# Altium integrated library adafruit.Library.IntLib: 666 symbols (part 4 of 6)
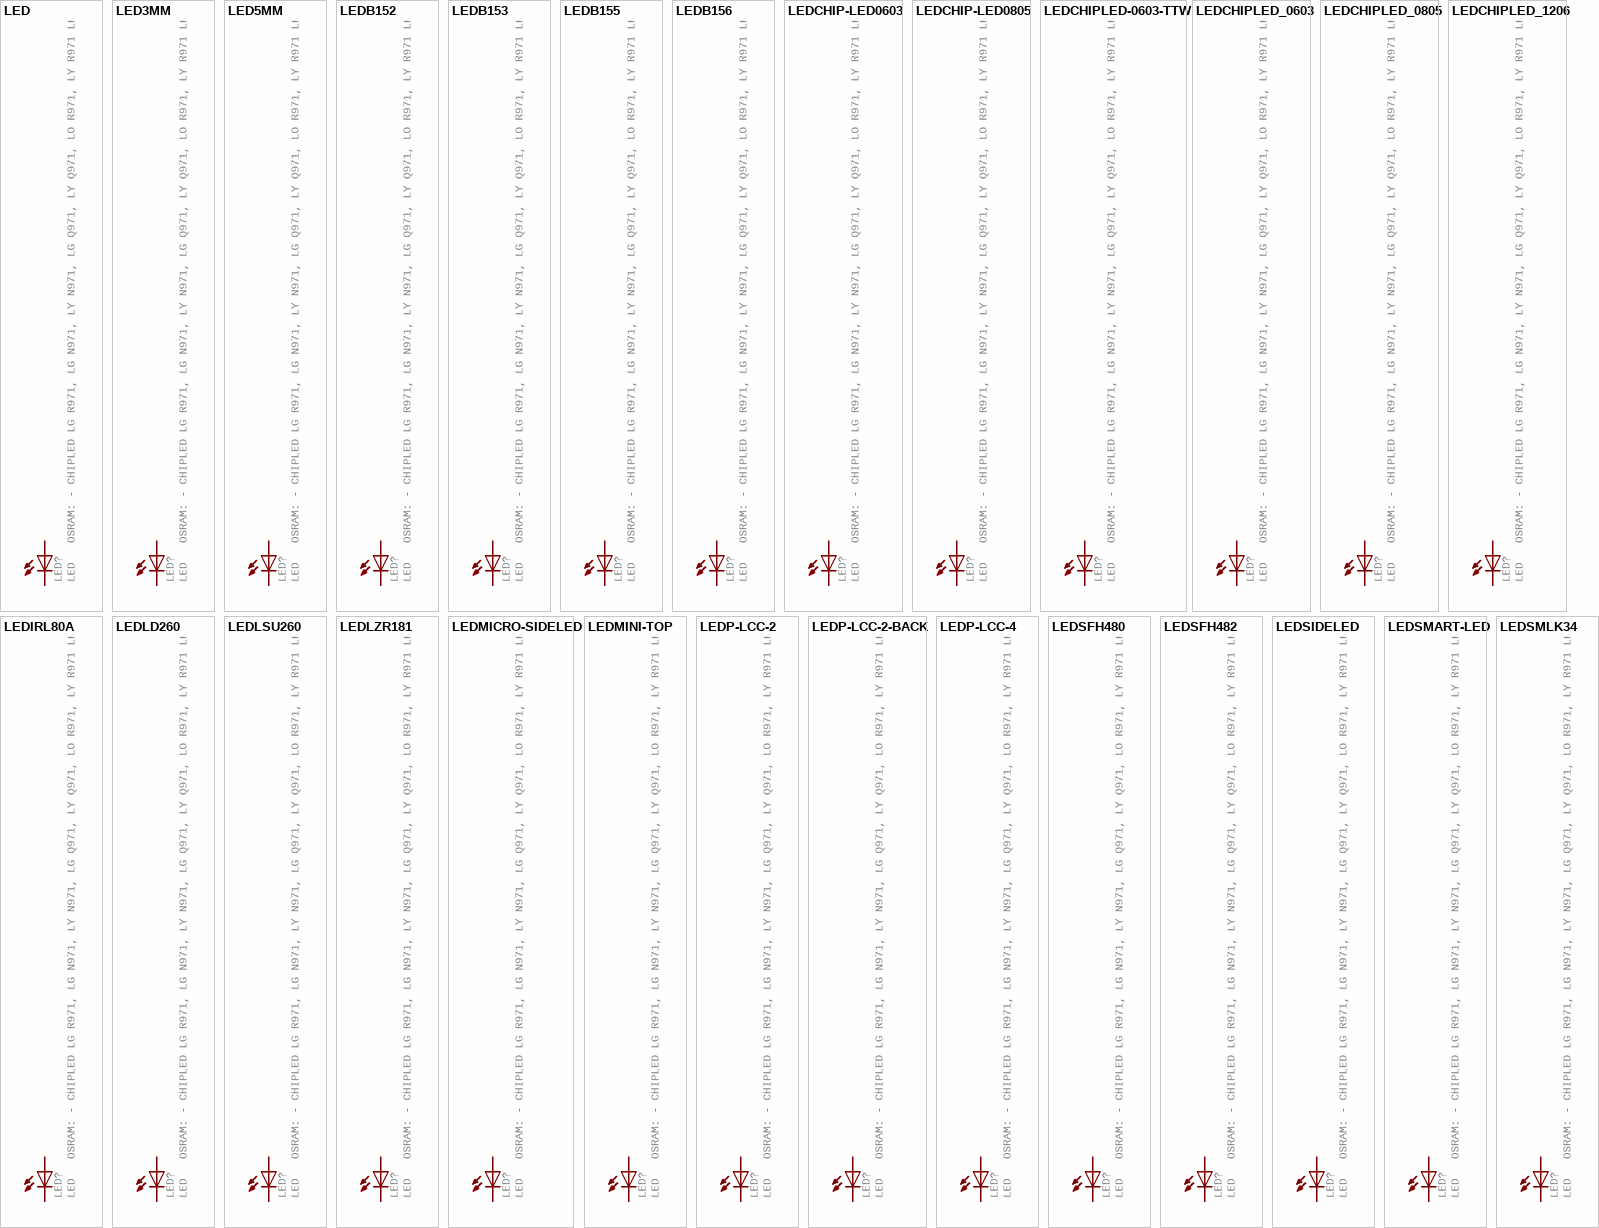
[diagram p30: symbols LED to LEDSMLK34]

## LEDIRL80A
designator LED?, comment LED   OSRAM: - CHIPLED LG R971, LG N971, LY N971, LG Q971, LY Q971, LO R971, LY R971 LH N974, LH R974 LS Q976, LO Q976, LY Q976 LO Q996 - Hyper CHIPLED LW Q18S LB Q993, LB Q99A, LB R99A - SideLED LS A670, LO A670, LY A670, LG A670, LP A670 LB A673, LV A673, LT A673, LW A673 LH A674 LY A675 LS A676, LA A676, LO A676, LY A676, LW A676 LS A679, LY A679, LG A679 -  Hyper Micro SIDELEDÂ® LS Y876, LA Y876, LO Y876, LY Y876 LT Y87S - SmartLED LW L88C, LW L88S LB L89C, LB L89S, LG L890 LS L89K, LO L89K, LY L89K LS L896, LA L896, LO L896, LY L896 - TOPLED LS T670, LO T670, LY T670, LG T670, LP T670 LSG T670, LSP T670, LSY T670, LOP T670, LYG T670 LG T671, LOG T671, LSG T671 LB T673, LV T673, LT T673, LW T673 LH T674 LS T676, LA T676, LO T676, LY T676, LB T676, LH T676, LSB T676, LW T676 LB T67C, LV T67C, LT T67C, LS T67K, LO T67K, LY T67K, LW E67C LS E67B, LA E67B, LO E67B, LY E67B, LB E67C, LV E67C, LT E67C LW T67C LS T679, LY T679, LG T679 LS T770, LO T770, LY T770, LG T770, LP T770 LB T773, LV T773, LT T773, LW T773 LH T774 LS E675, LA E675, LY E675, LS T675 LS T776, LA T776, LO T776, LY T776, LB T776 LHGB T686 LT T68C, LB T68C - Hyper Mini TOPLEDÂ® LB M676 - Mini TOPLED SantanaÂ® LG M470 LS M47K, LO M47K, LY M47K    Source: http://www.osram.convergy.de/
GateName_1: G$1; DeviceName: IRL80A; SymbolName_1: LED; LibraryName: adafruit; DeviceSetName: LED; Package: IRL80A
footprint IRL80A
pins: A, K C

## LEDLD260
designator LED?, comment LED   OSRAM: - CHIPLED LG R971, LG N971, LY N971, LG Q971, LY Q971, LO R971, LY R971 LH N974, LH R974 LS Q976, LO Q976, LY Q976 LO Q996 - Hyper CHIPLED LW Q18S LB Q993, LB Q99A, LB R99A - SideLED LS A670, LO A670, LY A670, LG A670, LP A670 LB A673, LV A673, LT A673, LW A673 LH A674 LY A675 LS A676, LA A676, LO A676, LY A676, LW A676 LS A679, LY A679, LG A679 -  Hyper Micro SIDELEDÂ® LS Y876, LA Y876, LO Y876, LY Y876 LT Y87S - SmartLED LW L88C, LW L88S LB L89C, LB L89S, LG L890 LS L89K, LO L89K, LY L89K LS L896, LA L896, LO L896, LY L896 - TOPLED LS T670, LO T670, LY T670, LG T670, LP T670 LSG T670, LSP T670, LSY T670, LOP T670, LYG T670 LG T671, LOG T671, LSG T671 LB T673, LV T673, LT T673, LW T673 LH T674 LS T676, LA T676, LO T676, LY T676, LB T676, LH T676, LSB T676, LW T676 LB T67C, LV T67C, LT T67C, LS T67K, LO T67K, LY T67K, LW E67C LS E67B, LA E67B, LO E67B, LY E67B, LB E67C, LV E67C, LT E67C LW T67C LS T679, LY T679, LG T679 LS T770, LO T770, LY T770, LG T770, LP T770 LB T773, LV T773, LT T773, LW T773 LH T774 LS E675, LA E675, LY E675, LS T675 LS T776, LA T776, LO T776, LY T776, LB T776 LHGB T686 LT T68C, LB T68C - Hyper Mini TOPLEDÂ® LB M676 - Mini TOPLED SantanaÂ® LG M470 LS M47K, LO M47K, LY M47K    Source: http://www.osram.convergy.de/
GateName_1: G$1; DeviceName: LD260; SymbolName_1: LED; LibraryName: adafruit; DeviceSetName: LED; Package: LD260
footprint LD260
pins: A, K C

## LEDLSU260
designator LED?, comment LED   OSRAM: - CHIPLED LG R971, LG N971, LY N971, LG Q971, LY Q971, LO R971, LY R971 LH N974, LH R974 LS Q976, LO Q976, LY Q976 LO Q996 - Hyper CHIPLED LW Q18S LB Q993, LB Q99A, LB R99A - SideLED LS A670, LO A670, LY A670, LG A670, LP A670 LB A673, LV A673, LT A673, LW A673 LH A674 LY A675 LS A676, LA A676, LO A676, LY A676, LW A676 LS A679, LY A679, LG A679 -  Hyper Micro SIDELEDÂ® LS Y876, LA Y876, LO Y876, LY Y876 LT Y87S - SmartLED LW L88C, LW L88S LB L89C, LB L89S, LG L890 LS L89K, LO L89K, LY L89K LS L896, LA L896, LO L896, LY L896 - TOPLED LS T670, LO T670, LY T670, LG T670, LP T670 LSG T670, LSP T670, LSY T670, LOP T670, LYG T670 LG T671, LOG T671, LSG T671 LB T673, LV T673, LT T673, LW T673 LH T674 LS T676, LA T676, LO T676, LY T676, LB T676, LH T676, LSB T676, LW T676 LB T67C, LV T67C, LT T67C, LS T67K, LO T67K, LY T67K, LW E67C LS E67B, LA E67B, LO E67B, LY E67B, LB E67C, LV E67C, LT E67C LW T67C LS T679, LY T679, LG T679 LS T770, LO T770, LY T770, LG T770, LP T770 LB T773, LV T773, LT T773, LW T773 LH T774 LS E675, LA E675, LY E675, LS T675 LS T776, LA T776, LO T776, LY T776, LB T776 LHGB T686 LT T68C, LB T68C - Hyper Mini TOPLEDÂ® LB M676 - Mini TOPLED SantanaÂ® LG M470 LS M47K, LO M47K, LY M47K    Source: http://www.osram.convergy.de/
GateName_1: G$1; DeviceName: LSU260; SymbolName_1: LED; LibraryName: adafruit; DeviceSetName: LED; Package: LSU260
footprint LSU260
pins: A, K C

## LEDLZR181
designator LED?, comment LED   OSRAM: - CHIPLED LG R971, LG N971, LY N971, LG Q971, LY Q971, LO R971, LY R971 LH N974, LH R974 LS Q976, LO Q976, LY Q976 LO Q996 - Hyper CHIPLED LW Q18S LB Q993, LB Q99A, LB R99A - SideLED LS A670, LO A670, LY A670, LG A670, LP A670 LB A673, LV A673, LT A673, LW A673 LH A674 LY A675 LS A676, LA A676, LO A676, LY A676, LW A676 LS A679, LY A679, LG A679 -  Hyper Micro SIDELEDÂ® LS Y876, LA Y876, LO Y876, LY Y876 LT Y87S - SmartLED LW L88C, LW L88S LB L89C, LB L89S, LG L890 LS L89K, LO L89K, LY L89K LS L896, LA L896, LO L896, LY L896 - TOPLED LS T670, LO T670, LY T670, LG T670, LP T670 LSG T670, LSP T670, LSY T670, LOP T670, LYG T670 LG T671, LOG T671, LSG T671 LB T673, LV T673, LT T673, LW T673 LH T674 LS T676, LA T676, LO T676, LY T676, LB T676, LH T676, LSB T676, LW T676 LB T67C, LV T67C, LT T67C, LS T67K, LO T67K, LY T67K, LW E67C LS E67B, LA E67B, LO E67B, LY E67B, LB E67C, LV E67C, LT E67C LW T67C LS T679, LY T679, LG T679 LS T770, LO T770, LY T770, LG T770, LP T770 LB T773, LV T773, LT T773, LW T773 LH T774 LS E675, LA E675, LY E675, LS T675 LS T776, LA T776, LO T776, LY T776, LB T776 LHGB T686 LT T68C, LB T68C - Hyper Mini TOPLEDÂ® LB M676 - Mini TOPLED SantanaÂ® LG M470 LS M47K, LO M47K, LY M47K    Source: http://www.osram.convergy.de/
GateName_1: G$1; DeviceName: LZR181; SymbolName_1: LED; LibraryName: adafruit; DeviceSetName: LED; Package: LZR181
footprint LZR181
pins: A, K C

## LEDMICRO-SIDELED
designator LED?, comment LED   OSRAM: - CHIPLED LG R971, LG N971, LY N971, LG Q971, LY Q971, LO R971, LY R971 LH N974, LH R974 LS Q976, LO Q976, LY Q976 LO Q996 - Hyper CHIPLED LW Q18S LB Q993, LB Q99A, LB R99A - SideLED LS A670, LO A670, LY A670, LG A670, LP A670 LB A673, LV A673, LT A673, LW A673 LH A674 LY A675 LS A676, LA A676, LO A676, LY A676, LW A676 LS A679, LY A679, LG A679 -  Hyper Micro SIDELEDÂ® LS Y876, LA Y876, LO Y876, LY Y876 LT Y87S - SmartLED LW L88C, LW L88S LB L89C, LB L89S, LG L890 LS L89K, LO L89K, LY L89K LS L896, LA L896, LO L896, LY L896 - TOPLED LS T670, LO T670, LY T670, LG T670, LP T670 LSG T670, LSP T670, LSY T670, LOP T670, LYG T670 LG T671, LOG T671, LSG T671 LB T673, LV T673, LT T673, LW T673 LH T674 LS T676, LA T676, LO T676, LY T676, LB T676, LH T676, LSB T676, LW T676 LB T67C, LV T67C, LT T67C, LS T67K, LO T67K, LY T67K, LW E67C LS E67B, LA E67B, LO E67B, LY E67B, LB E67C, LV E67C, LT E67C LW T67C LS T679, LY T679, LG T679 LS T770, LO T770, LY T770, LG T770, LP T770 LB T773, LV T773, LT T773, LW T773 LH T774 LS E675, LA E675, LY E675, LS T675 LS T776, LA T776, LO T776, LY T776, LB T776 LHGB T686 LT T68C, LB T68C - Hyper Mini TOPLEDÂ® LB M676 - Mini TOPLED SantanaÂ® LG M470 LS M47K, LO M47K, LY M47K    Source: http://www.osram.convergy.de/
GateName_1: G$1; DeviceName: MICRO-SIDELED; SymbolName_1: LED; LibraryName: adafruit; DeviceSetName: LED; Package: MICRO-SIDELED
footprint MICRO-SIDELED
pins: A, C

## LEDMINI-TOP
designator LED?, comment LED   OSRAM: - CHIPLED LG R971, LG N971, LY N971, LG Q971, LY Q971, LO R971, LY R971 LH N974, LH R974 LS Q976, LO Q976, LY Q976 LO Q996 - Hyper CHIPLED LW Q18S LB Q993, LB Q99A, LB R99A - SideLED LS A670, LO A670, LY A670, LG A670, LP A670 LB A673, LV A673, LT A673, LW A673 LH A674 LY A675 LS A676, LA A676, LO A676, LY A676, LW A676 LS A679, LY A679, LG A679 -  Hyper Micro SIDELEDÂ® LS Y876, LA Y876, LO Y876, LY Y876 LT Y87S - SmartLED LW L88C, LW L88S LB L89C, LB L89S, LG L890 LS L89K, LO L89K, LY L89K LS L896, LA L896, LO L896, LY L896 - TOPLED LS T670, LO T670, LY T670, LG T670, LP T670 LSG T670, LSP T670, LSY T670, LOP T670, LYG T670 LG T671, LOG T671, LSG T671 LB T673, LV T673, LT T673, LW T673 LH T674 LS T676, LA T676, LO T676, LY T676, LB T676, LH T676, LSB T676, LW T676 LB T67C, LV T67C, LT T67C, LS T67K, LO T67K, LY T67K, LW E67C LS E67B, LA E67B, LO E67B, LY E67B, LB E67C, LV E67C, LT E67C LW T67C LS T679, LY T679, LG T679 LS T770, LO T770, LY T770, LG T770, LP T770 LB T773, LV T773, LT T773, LW T773 LH T774 LS E675, LA E675, LY E675, LS T675 LS T776, LA T776, LO T776, LY T776, LB T776 LHGB T686 LT T68C, LB T68C - Hyper Mini TOPLEDÂ® LB M676 - Mini TOPLED SantanaÂ® LG M470 LS M47K, LO M47K, LY M47K    Source: http://www.osram.convergy.de/
GateName_1: G$1; DeviceName: MINI-TOP; SymbolName_1: LED; LibraryName: adafruit; DeviceSetName: LED; Package: OSRAM-MINI-TOP-LED
footprint OSRAM-MINI-TOP-LED
pins: A, C

## LEDP-LCC-2
designator LED?, comment LED   OSRAM: - CHIPLED LG R971, LG N971, LY N971, LG Q971, LY Q971, LO R971, LY R971 LH N974, LH R974 LS Q976, LO Q976, LY Q976 LO Q996 - Hyper CHIPLED LW Q18S LB Q993, LB Q99A, LB R99A - SideLED LS A670, LO A670, LY A670, LG A670, LP A670 LB A673, LV A673, LT A673, LW A673 LH A674 LY A675 LS A676, LA A676, LO A676, LY A676, LW A676 LS A679, LY A679, LG A679 -  Hyper Micro SIDELEDÂ® LS Y876, LA Y876, LO Y876, LY Y876 LT Y87S - SmartLED LW L88C, LW L88S LB L89C, LB L89S, LG L890 LS L89K, LO L89K, LY L89K LS L896, LA L896, LO L896, LY L896 - TOPLED LS T670, LO T670, LY T670, LG T670, LP T670 LSG T670, LSP T670, LSY T670, LOP T670, LYG T670 LG T671, LOG T671, LSG T671 LB T673, LV T673, LT T673, LW T673 LH T674 LS T676, LA T676, LO T676, LY T676, LB T676, LH T676, LSB T676, LW T676 LB T67C, LV T67C, LT T67C, LS T67K, LO T67K, LY T67K, LW E67C LS E67B, LA E67B, LO E67B, LY E67B, LB E67C, LV E67C, LT E67C LW T67C LS T679, LY T679, LG T679 LS T770, LO T770, LY T770, LG T770, LP T770 LB T773, LV T773, LT T773, LW T773 LH T774 LS E675, LA E675, LY E675, LS T675 LS T776, LA T776, LO T776, LY T776, LB T776 LHGB T686 LT T68C, LB T68C - Hyper Mini TOPLEDÂ® LB M676 - Mini TOPLED SantanaÂ® LG M470 LS M47K, LO M47K, LY M47K    Source: http://www.osram.convergy.de/
GateName_1: G$1; DeviceName: P-LCC-2; SymbolName_1: LED; LibraryName: adafruit; DeviceSetName: LED; Package: P-LCC-2
footprint P-LCC-2
pins: A, C

## LEDP-LCC-2-BACK
designator LED?, comment LED   OSRAM: - CHIPLED LG R971, LG N971, LY N971, LG Q971, LY Q971, LO R971, LY R971 LH N974, LH R974 LS Q976, LO Q976, LY Q976 LO Q996 - Hyper CHIPLED LW Q18S LB Q993, LB Q99A, LB R99A - SideLED LS A670, LO A670, LY A670, LG A670, LP A670 LB A673, LV A673, LT A673, LW A673 LH A674 LY A675 LS A676, LA A676, LO A676, LY A676, LW A676 LS A679, LY A679, LG A679 -  Hyper Micro SIDELEDÂ® LS Y876, LA Y876, LO Y876, LY Y876 LT Y87S - SmartLED LW L88C, LW L88S LB L89C, LB L89S, LG L890 LS L89K, LO L89K, LY L89K LS L896, LA L896, LO L896, LY L896 - TOPLED LS T670, LO T670, LY T670, LG T670, LP T670 LSG T670, LSP T670, LSY T670, LOP T670, LYG T670 LG T671, LOG T671, LSG T671 LB T673, LV T673, LT T673, LW T673 LH T674 LS T676, LA T676, LO T676, LY T676, LB T676, LH T676, LSB T676, LW T676 LB T67C, LV T67C, LT T67C, LS T67K, LO T67K, LY T67K, LW E67C LS E67B, LA E67B, LO E67B, LY E67B, LB E67C, LV E67C, LT E67C LW T67C LS T679, LY T679, LG T679 LS T770, LO T770, LY T770, LG T770, LP T770 LB T773, LV T773, LT T773, LW T773 LH T774 LS E675, LA E675, LY E675, LS T675 LS T776, LA T776, LO T776, LY T776, LB T776 LHGB T686 LT T68C, LB T68C - Hyper Mini TOPLEDÂ® LB M676 - Mini TOPLED SantanaÂ® LG M470 LS M47K, LO M47K, LY M47K    Source: http://www.osram.convergy.de/
GateName_1: G$1; DeviceName: P-LCC-2-BACK; SymbolName_1: LED; LibraryName: adafruit; DeviceSetName: LED; Package: P-LCC-2-TOPLED-RG
footprint P-LCC-2-TOPLED-RG
pins: A, C

## LEDP-LCC-4
designator LED?, comment LED   OSRAM: - CHIPLED LG R971, LG N971, LY N971, LG Q971, LY Q971, LO R971, LY R971 LH N974, LH R974 LS Q976, LO Q976, LY Q976 LO Q996 - Hyper CHIPLED LW Q18S LB Q993, LB Q99A, LB R99A - SideLED LS A670, LO A670, LY A670, LG A670, LP A670 LB A673, LV A673, LT A673, LW A673 LH A674 LY A675 LS A676, LA A676, LO A676, LY A676, LW A676 LS A679, LY A679, LG A679 -  Hyper Micro SIDELEDÂ® LS Y876, LA Y876, LO Y876, LY Y876 LT Y87S - SmartLED LW L88C, LW L88S LB L89C, LB L89S, LG L890 LS L89K, LO L89K, LY L89K LS L896, LA L896, LO L896, LY L896 - TOPLED LS T670, LO T670, LY T670, LG T670, LP T670 LSG T670, LSP T670, LSY T670, LOP T670, LYG T670 LG T671, LOG T671, LSG T671 LB T673, LV T673, LT T673, LW T673 LH T674 LS T676, LA T676, LO T676, LY T676, LB T676, LH T676, LSB T676, LW T676 LB T67C, LV T67C, LT T67C, LS T67K, LO T67K, LY T67K, LW E67C LS E67B, LA E67B, LO E67B, LY E67B, LB E67C, LV E67C, LT E67C LW T67C LS T679, LY T679, LG T679 LS T770, LO T770, LY T770, LG T770, LP T770 LB T773, LV T773, LT T773, LW T773 LH T774 LS E675, LA E675, LY E675, LS T675 LS T776, LA T776, LO T776, LY T776, LB T776 LHGB T686 LT T68C, LB T68C - Hyper Mini TOPLEDÂ® LB M676 - Mini TOPLED SantanaÂ® LG M470 LS M47K, LO M47K, LY M47K    Source: http://www.osram.convergy.de/
GateName_1: G$1; DeviceName: P-LCC-4; SymbolName_1: LED; LibraryName: adafruit; DeviceSetName: LED; Package: P-LCC-4
footprint P-LCC-4
pins: A, C@4 C

## LEDSFH480
designator LED?, comment LED   OSRAM: - CHIPLED LG R971, LG N971, LY N971, LG Q971, LY Q971, LO R971, LY R971 LH N974, LH R974 LS Q976, LO Q976, LY Q976 LO Q996 - Hyper CHIPLED LW Q18S LB Q993, LB Q99A, LB R99A - SideLED LS A670, LO A670, LY A670, LG A670, LP A670 LB A673, LV A673, LT A673, LW A673 LH A674 LY A675 LS A676, LA A676, LO A676, LY A676, LW A676 LS A679, LY A679, LG A679 -  Hyper Micro SIDELEDÂ® LS Y876, LA Y876, LO Y876, LY Y876 LT Y87S - SmartLED LW L88C, LW L88S LB L89C, LB L89S, LG L890 LS L89K, LO L89K, LY L89K LS L896, LA L896, LO L896, LY L896 - TOPLED LS T670, LO T670, LY T670, LG T670, LP T670 LSG T670, LSP T670, LSY T670, LOP T670, LYG T670 LG T671, LOG T671, LSG T671 LB T673, LV T673, LT T673, LW T673 LH T674 LS T676, LA T676, LO T676, LY T676, LB T676, LH T676, LSB T676, LW T676 LB T67C, LV T67C, LT T67C, LS T67K, LO T67K, LY T67K, LW E67C LS E67B, LA E67B, LO E67B, LY E67B, LB E67C, LV E67C, LT E67C LW T67C LS T679, LY T679, LG T679 LS T770, LO T770, LY T770, LG T770, LP T770 LB T773, LV T773, LT T773, LW T773 LH T774 LS E675, LA E675, LY E675, LS T675 LS T776, LA T776, LO T776, LY T776, LB T776 LHGB T686 LT T68C, LB T68C - Hyper Mini TOPLEDÂ® LB M676 - Mini TOPLED SantanaÂ® LG M470 LS M47K, LO M47K, LY M47K    Source: http://www.osram.convergy.de/
GateName_1: G$1; DeviceName: SFH480; SymbolName_1: LED; LibraryName: adafruit; DeviceSetName: LED; Package: SFH480
footprint SFH480
pins: A, K C

## LEDSFH482
designator LED?, comment LED   OSRAM: - CHIPLED LG R971, LG N971, LY N971, LG Q971, LY Q971, LO R971, LY R971 LH N974, LH R974 LS Q976, LO Q976, LY Q976 LO Q996 - Hyper CHIPLED LW Q18S LB Q993, LB Q99A, LB R99A - SideLED LS A670, LO A670, LY A670, LG A670, LP A670 LB A673, LV A673, LT A673, LW A673 LH A674 LY A675 LS A676, LA A676, LO A676, LY A676, LW A676 LS A679, LY A679, LG A679 -  Hyper Micro SIDELEDÂ® LS Y876, LA Y876, LO Y876, LY Y876 LT Y87S - SmartLED LW L88C, LW L88S LB L89C, LB L89S, LG L890 LS L89K, LO L89K, LY L89K LS L896, LA L896, LO L896, LY L896 - TOPLED LS T670, LO T670, LY T670, LG T670, LP T670 LSG T670, LSP T670, LSY T670, LOP T670, LYG T670 LG T671, LOG T671, LSG T671 LB T673, LV T673, LT T673, LW T673 LH T674 LS T676, LA T676, LO T676, LY T676, LB T676, LH T676, LSB T676, LW T676 LB T67C, LV T67C, LT T67C, LS T67K, LO T67K, LY T67K, LW E67C LS E67B, LA E67B, LO E67B, LY E67B, LB E67C, LV E67C, LT E67C LW T67C LS T679, LY T679, LG T679 LS T770, LO T770, LY T770, LG T770, LP T770 LB T773, LV T773, LT T773, LW T773 LH T774 LS E675, LA E675, LY E675, LS T675 LS T776, LA T776, LO T776, LY T776, LB T776 LHGB T686 LT T68C, LB T68C - Hyper Mini TOPLEDÂ® LB M676 - Mini TOPLED SantanaÂ® LG M470 LS M47K, LO M47K, LY M47K    Source: http://www.osram.convergy.de/
GateName_1: G$1; DeviceName: SFH482; SymbolName_1: LED; LibraryName: adafruit; DeviceSetName: LED; Package: SFH482
footprint SFH482
pins: A, K C

## LEDSIDELED
designator LED?, comment LED   OSRAM: - CHIPLED LG R971, LG N971, LY N971, LG Q971, LY Q971, LO R971, LY R971 LH N974, LH R974 LS Q976, LO Q976, LY Q976 LO Q996 - Hyper CHIPLED LW Q18S LB Q993, LB Q99A, LB R99A - SideLED LS A670, LO A670, LY A670, LG A670, LP A670 LB A673, LV A673, LT A673, LW A673 LH A674 LY A675 LS A676, LA A676, LO A676, LY A676, LW A676 LS A679, LY A679, LG A679 -  Hyper Micro SIDELEDÂ® LS Y876, LA Y876, LO Y876, LY Y876 LT Y87S - SmartLED LW L88C, LW L88S LB L89C, LB L89S, LG L890 LS L89K, LO L89K, LY L89K LS L896, LA L896, LO L896, LY L896 - TOPLED LS T670, LO T670, LY T670, LG T670, LP T670 LSG T670, LSP T670, LSY T670, LOP T670, LYG T670 LG T671, LOG T671, LSG T671 LB T673, LV T673, LT T673, LW T673 LH T674 LS T676, LA T676, LO T676, LY T676, LB T676, LH T676, LSB T676, LW T676 LB T67C, LV T67C, LT T67C, LS T67K, LO T67K, LY T67K, LW E67C LS E67B, LA E67B, LO E67B, LY E67B, LB E67C, LV E67C, LT E67C LW T67C LS T679, LY T679, LG T679 LS T770, LO T770, LY T770, LG T770, LP T770 LB T773, LV T773, LT T773, LW T773 LH T774 LS E675, LA E675, LY E675, LS T675 LS T776, LA T776, LO T776, LY T776, LB T776 LHGB T686 LT T68C, LB T68C - Hyper Mini TOPLEDÂ® LB M676 - Mini TOPLED SantanaÂ® LG M470 LS M47K, LO M47K, LY M47K    Source: http://www.osram.convergy.de/
GateName_1: G$1; SymbolName_1: LED; DeviceName: SIDELED; LibraryName: adafruit; DeviceSetName: LED; Package: OSRAM-SIDELED
footprint OSRAM-SIDELED
pins: A, C

## LEDSMART-LED
designator LED?, comment LED   OSRAM: - CHIPLED LG R971, LG N971, LY N971, LG Q971, LY Q971, LO R971, LY R971 LH N974, LH R974 LS Q976, LO Q976, LY Q976 LO Q996 - Hyper CHIPLED LW Q18S LB Q993, LB Q99A, LB R99A - SideLED LS A670, LO A670, LY A670, LG A670, LP A670 LB A673, LV A673, LT A673, LW A673 LH A674 LY A675 LS A676, LA A676, LO A676, LY A676, LW A676 LS A679, LY A679, LG A679 -  Hyper Micro SIDELEDÂ® LS Y876, LA Y876, LO Y876, LY Y876 LT Y87S - SmartLED LW L88C, LW L88S LB L89C, LB L89S, LG L890 LS L89K, LO L89K, LY L89K LS L896, LA L896, LO L896, LY L896 - TOPLED LS T670, LO T670, LY T670, LG T670, LP T670 LSG T670, LSP T670, LSY T670, LOP T670, LYG T670 LG T671, LOG T671, LSG T671 LB T673, LV T673, LT T673, LW T673 LH T674 LS T676, LA T676, LO T676, LY T676, LB T676, LH T676, LSB T676, LW T676 LB T67C, LV T67C, LT T67C, LS T67K, LO T67K, LY T67K, LW E67C LS E67B, LA E67B, LO E67B, LY E67B, LB E67C, LV E67C, LT E67C LW T67C LS T679, LY T679, LG T679 LS T770, LO T770, LY T770, LG T770, LP T770 LB T773, LV T773, LT T773, LW T773 LH T774 LS E675, LA E675, LY E675, LS T675 LS T776, LA T776, LO T776, LY T776, LB T776 LHGB T686 LT T68C, LB T68C - Hyper Mini TOPLEDÂ® LB M676 - Mini TOPLED SantanaÂ® LG M470 LS M47K, LO M47K, LY M47K    Source: http://www.osram.convergy.de/
GateName_1: G$1; DeviceName: SMART-LED; SymbolName_1: LED; LibraryName: adafruit; DeviceSetName: LED; Package: SMART-LED
footprint SMART-LED
pins: A, B C

## LEDSMLK34
designator LED?, comment LED   OSRAM: - CHIPLED LG R971, LG N971, LY N971, LG Q971, LY Q971, LO R971, LY R971 LH N974, LH R974 LS Q976, LO Q976, LY Q976 LO Q996 - Hyper CHIPLED LW Q18S LB Q993, LB Q99A, LB R99A - SideLED LS A670, LO A670, LY A670, LG A670, LP A670 LB A673, LV A673, LT A673, LW A673 LH A674 LY A675 LS A676, LA A676, LO A676, LY A676, LW A676 LS A679, LY A679, LG A679 -  Hyper Micro SIDELEDÂ® LS Y876, LA Y876, LO Y876, LY Y876 LT Y87S - SmartLED LW L88C, LW L88S LB L89C, LB L89S, LG L890 LS L89K, LO L89K, LY L89K LS L896, LA L896, LO L896, LY L896 - TOPLED LS T670, LO T670, LY T670, LG T670, LP T670 LSG T670, LSP T670, LSY T670, LOP T670, LYG T670 LG T671, LOG T671, LSG T671 LB T673, LV T673, LT T673, LW T673 LH T674 LS T676, LA T676, LO T676, LY T676, LB T676, LH T676, LSB T676, LW T676 LB T67C, LV T67C, LT T67C, LS T67K, LO T67K, LY T67K, LW E67C LS E67B, LA E67B, LO E67B, LY E67B, LB E67C, LV E67C, LT E67C LW T67C LS T679, LY T679, LG T679 LS T770, LO T770, LY T770, LG T770, LP T770 LB T773, LV T773, LT T773, LW T773 LH T774 LS E675, LA E675, LY E675, LS T675 LS T776, LA T776, LO T776, LY T776, LB T776 LHGB T686 LT T68C, LB T68C - Hyper Mini TOPLEDÂ® LB M676 - Mini TOPLED SantanaÂ® LG M470 LS M47K, LO M47K, LY M47K    Source: http://www.osram.convergy.de/
GateName_1: G$1; DeviceName: SMLK34; SymbolName_1: LED; LibraryName: adafruit; DeviceSetName: LED; Package: SMLK34
footprint SMLK34
pins: A, K C

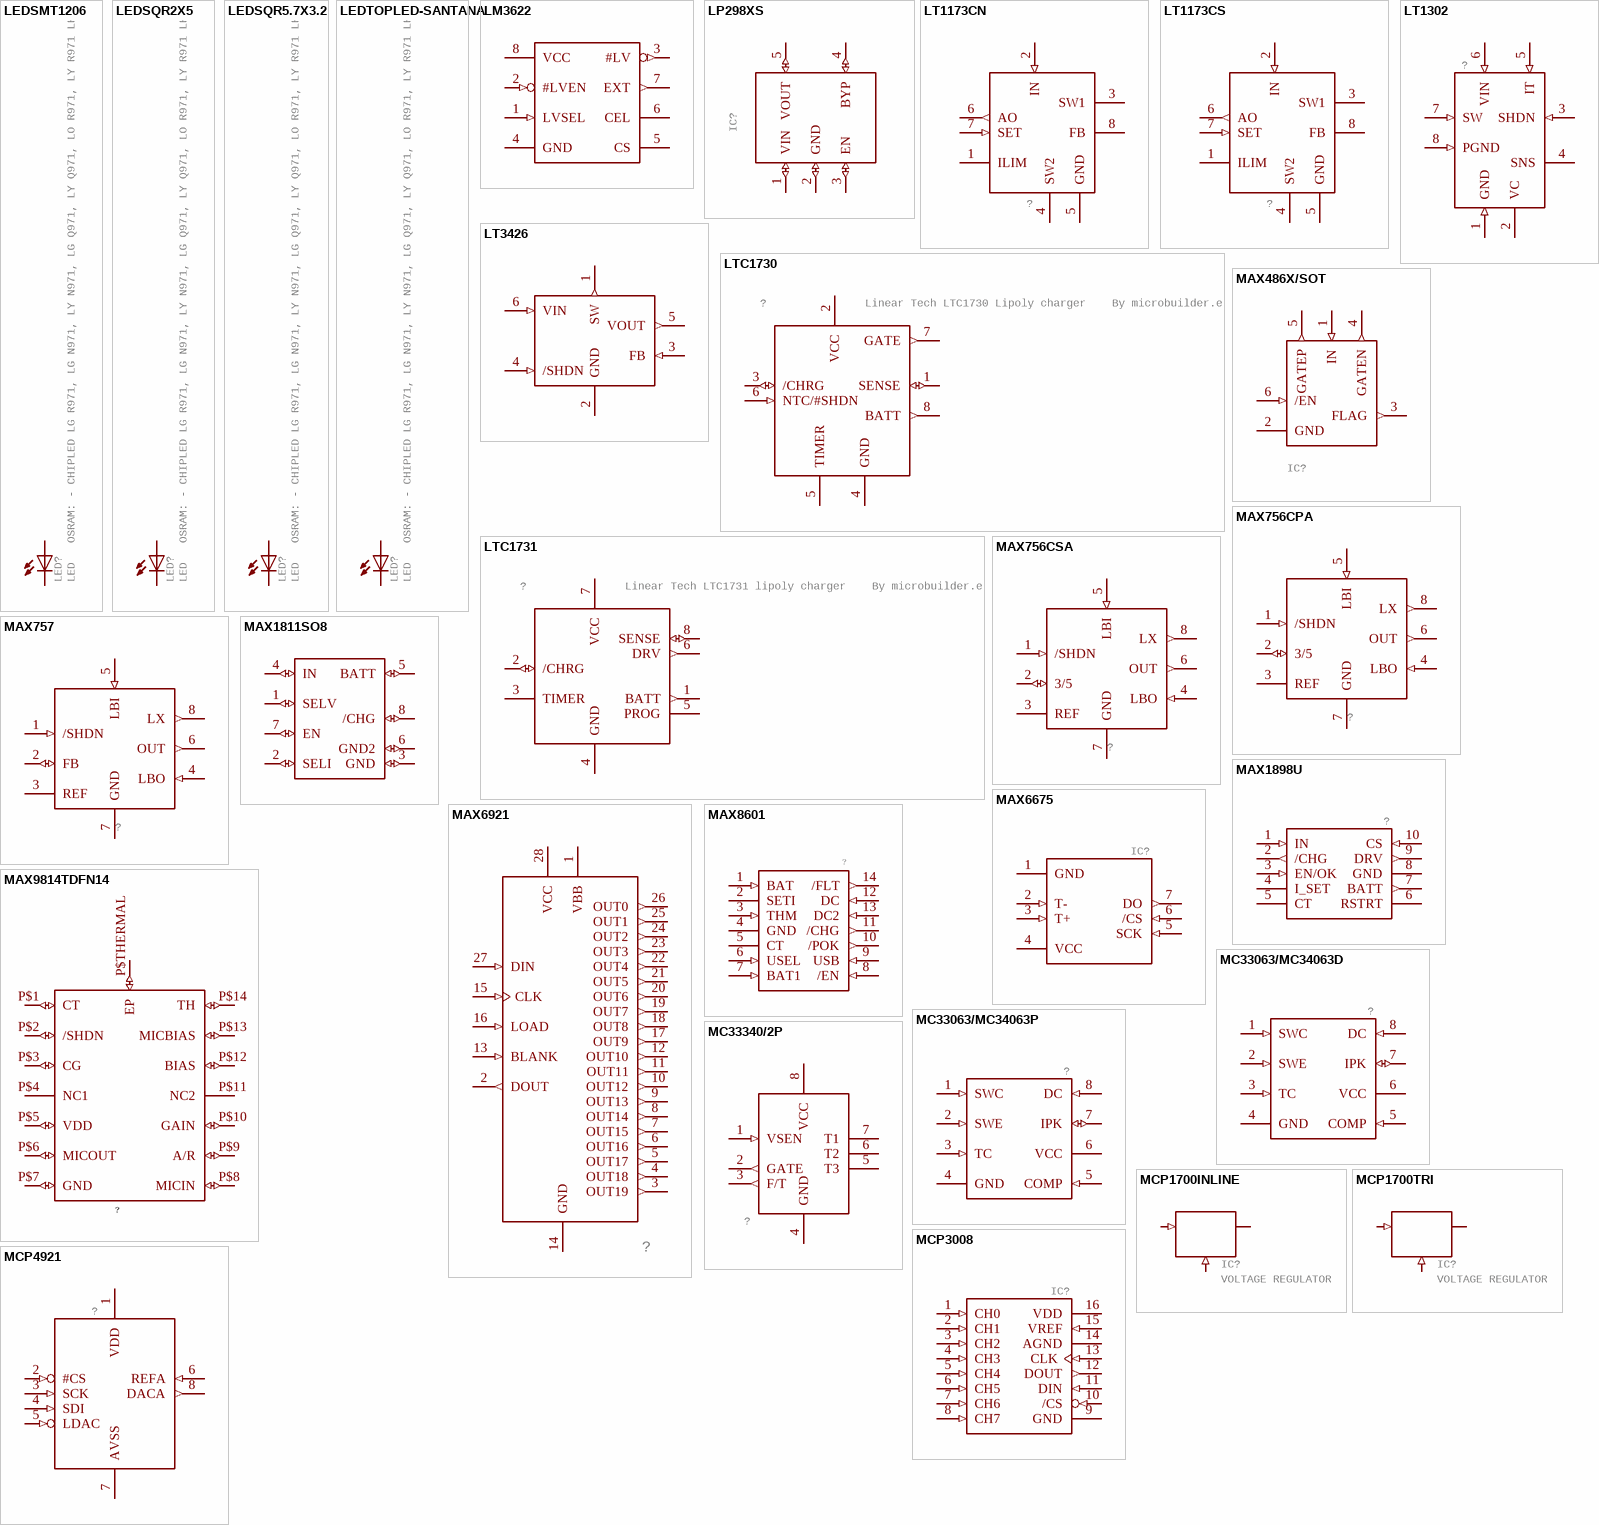
[diagram p18: symbols LEDSMT1206 to MCP4921]

## LEDSMT1206
designator LED?, comment LED   OSRAM: - CHIPLED LG R971, LG N971, LY N971, LG Q971, LY Q971, LO R971, LY R971 LH N974, LH R974 LS Q976, LO Q976, LY Q976 LO Q996 - Hyper CHIPLED LW Q18S LB Q993, LB Q99A, LB R99A - SideLED LS A670, LO A670, LY A670, LG A670, LP A670 LB A673, LV A673, LT A673, LW A673 LH A674 LY A675 LS A676, LA A676, LO A676, LY A676, LW A676 LS A679, LY A679, LG A679 -  Hyper Micro SIDELEDÂ® LS Y876, LA Y876, LO Y876, LY Y876 LT Y87S - SmartLED LW L88C, LW L88S LB L89C, LB L89S, LG L890 LS L89K, LO L89K, LY L89K LS L896, LA L896, LO L896, LY L896 - TOPLED LS T670, LO T670, LY T670, LG T670, LP T670 LSG T670, LSP T670, LSY T670, LOP T670, LYG T670 LG T671, LOG T671, LSG T671 LB T673, LV T673, LT T673, LW T673 LH T674 LS T676, LA T676, LO T676, LY T676, LB T676, LH T676, LSB T676, LW T676 LB T67C, LV T67C, LT T67C, LS T67K, LO T67K, LY T67K, LW E67C LS E67B, LA E67B, LO E67B, LY E67B, LB E67C, LV E67C, LT E67C LW T67C LS T679, LY T679, LG T679 LS T770, LO T770, LY T770, LG T770, LP T770 LB T773, LV T773, LT T773, LW T773 LH T774 LS E675, LA E675, LY E675, LS T675 LS T776, LA T776, LO T776, LY T776, LB T776 LHGB T686 LT T68C, LB T68C - Hyper Mini TOPLEDÂ® LB M676 - Mini TOPLED SantanaÂ® LG M470 LS M47K, LO M47K, LY M47K    Source: http://www.osram.convergy.de/
GateName_1: G$1; DeviceName: SMT1206; SymbolName_1: LED; LibraryName: adafruit; DeviceSetName: LED; Package: 1206
footprint 1206
pins: A, C

## LEDSQR2X5
designator LED?, comment LED   OSRAM: - CHIPLED LG R971, LG N971, LY N971, LG Q971, LY Q971, LO R971, LY R971 LH N974, LH R974 LS Q976, LO Q976, LY Q976 LO Q996 - Hyper CHIPLED LW Q18S LB Q993, LB Q99A, LB R99A - SideLED LS A670, LO A670, LY A670, LG A670, LP A670 LB A673, LV A673, LT A673, LW A673 LH A674 LY A675 LS A676, LA A676, LO A676, LY A676, LW A676 LS A679, LY A679, LG A679 -  Hyper Micro SIDELEDÂ® LS Y876, LA Y876, LO Y876, LY Y876 LT Y87S - SmartLED LW L88C, LW L88S LB L89C, LB L89S, LG L890 LS L89K, LO L89K, LY L89K LS L896, LA L896, LO L896, LY L896 - TOPLED LS T670, LO T670, LY T670, LG T670, LP T670 LSG T670, LSP T670, LSY T670, LOP T670, LYG T670 LG T671, LOG T671, LSG T671 LB T673, LV T673, LT T673, LW T673 LH T674 LS T676, LA T676, LO T676, LY T676, LB T676, LH T676, LSB T676, LW T676 LB T67C, LV T67C, LT T67C, LS T67K, LO T67K, LY T67K, LW E67C LS E67B, LA E67B, LO E67B, LY E67B, LB E67C, LV E67C, LT E67C LW T67C LS T679, LY T679, LG T679 LS T770, LO T770, LY T770, LG T770, LP T770 LB T773, LV T773, LT T773, LW T773 LH T774 LS E675, LA E675, LY E675, LS T675 LS T776, LA T776, LO T776, LY T776, LB T776 LHGB T686 LT T68C, LB T68C - Hyper Mini TOPLEDÂ® LB M676 - Mini TOPLED SantanaÂ® LG M470 LS M47K, LO M47K, LY M47K    Source: http://www.osram.convergy.de/
GateName_1: G$1; DeviceName: SQR2X5; SymbolName_1: LED; LibraryName: adafruit; DeviceSetName: LED; Package: LED2X5
footprint LED2X5
pins: A, K C

## LEDSQR5.7X3.2
designator LED?, comment LED   OSRAM: - CHIPLED LG R971, LG N971, LY N971, LG Q971, LY Q971, LO R971, LY R971 LH N974, LH R974 LS Q976, LO Q976, LY Q976 LO Q996 - Hyper CHIPLED LW Q18S LB Q993, LB Q99A, LB R99A - SideLED LS A670, LO A670, LY A670, LG A670, LP A670 LB A673, LV A673, LT A673, LW A673 LH A674 LY A675 LS A676, LA A676, LO A676, LY A676, LW A676 LS A679, LY A679, LG A679 -  Hyper Micro SIDELEDÂ® LS Y876, LA Y876, LO Y876, LY Y876 LT Y87S - SmartLED LW L88C, LW L88S LB L89C, LB L89S, LG L890 LS L89K, LO L89K, LY L89K LS L896, LA L896, LO L896, LY L896 - TOPLED LS T670, LO T670, LY T670, LG T670, LP T670 LSG T670, LSP T670, LSY T670, LOP T670, LYG T670 LG T671, LOG T671, LSG T671 LB T673, LV T673, LT T673, LW T673 LH T674 LS T676, LA T676, LO T676, LY T676, LB T676, LH T676, LSB T676, LW T676 LB T67C, LV T67C, LT T67C, LS T67K, LO T67K, LY T67K, LW E67C LS E67B, LA E67B, LO E67B, LY E67B, LB E67C, LV E67C, LT E67C LW T67C LS T679, LY T679, LG T679 LS T770, LO T770, LY T770, LG T770, LP T770 LB T773, LV T773, LT T773, LW T773 LH T774 LS E675, LA E675, LY E675, LS T675 LS T776, LA T776, LO T776, LY T776, LB T776 LHGB T686 LT T68C, LB T68C - Hyper Mini TOPLEDÂ® LB M676 - Mini TOPLED SantanaÂ® LG M470 LS M47K, LO M47K, LY M47K    Source: http://www.osram.convergy.de/
GateName_1: G$1; DeviceName: SQR5.7X3.2; SymbolName_1: LED; LibraryName: adafruit; DeviceSetName: LED; Package: U57X32
footprint U57X32
pins: A, K C

## LEDTOPLED-SANTANA
designator LED?, comment LED   OSRAM: - CHIPLED LG R971, LG N971, LY N971, LG Q971, LY Q971, LO R971, LY R971 LH N974, LH R974 LS Q976, LO Q976, LY Q976 LO Q996 - Hyper CHIPLED LW Q18S LB Q993, LB Q99A, LB R99A - SideLED LS A670, LO A670, LY A670, LG A670, LP A670 LB A673, LV A673, LT A673, LW A673 LH A674 LY A675 LS A676, LA A676, LO A676, LY A676, LW A676 LS A679, LY A679, LG A679 -  Hyper Micro SIDELEDÂ® LS Y876, LA Y876, LO Y876, LY Y876 LT Y87S - SmartLED LW L88C, LW L88S LB L89C, LB L89S, LG L890 LS L89K, LO L89K, LY L89K LS L896, LA L896, LO L896, LY L896 - TOPLED LS T670, LO T670, LY T670, LG T670, LP T670 LSG T670, LSP T670, LSY T670, LOP T670, LYG T670 LG T671, LOG T671, LSG T671 LB T673, LV T673, LT T673, LW T673 LH T674 LS T676, LA T676, LO T676, LY T676, LB T676, LH T676, LSB T676, LW T676 LB T67C, LV T67C, LT T67C, LS T67K, LO T67K, LY T67K, LW E67C LS E67B, LA E67B, LO E67B, LY E67B, LB E67C, LV E67C, LT E67C LW T67C LS T679, LY T679, LG T679 LS T770, LO T770, LY T770, LG T770, LP T770 LB T773, LV T773, LT T773, LW T773 LH T774 LS E675, LA E675, LY E675, LS T675 LS T776, LA T776, LO T776, LY T776, LB T776 LHGB T686 LT T68C, LB T68C - Hyper Mini TOPLEDÂ® LB M676 - Mini TOPLED SantanaÂ® LG M470 LS M47K, LO M47K, LY M47K    Source: http://www.osram.convergy.de/
GateName_1: G$1; DeviceName: TOPLED-SANTANA; SymbolName_1: LED; LibraryName: adafruit; DeviceSetName: LED; Package: MINI-TOPLED-SANTANA
footprint MINI-TOPLED-SANTANA
pins: A, C

## LM3622
designator ?, comment National LM3622 li-ion charger    http://www.ladyada.net/library/eagle  (value not drawn)
GateName_1: G$1; SymbolName_1: LM3622; LibraryName: adafruit; DeviceSetName: LM3622; Package: SO08
footprint SO08
pins: 1 LVSEL (in), 2 #LVEN (in), 3 #LV (out), 4 GND (power), 5 CS, 6 CEL, 7 EXT (out), 8 VCC (power)

## LP298XS
designator IC?
GateName_1: G$1; SymbolName_1: LP298X; DeviceName: S; LibraryName: adafruit; DeviceSetName: LP298X; Package: SOT23-5L
footprint SOT23-5L
pins: 1 VIN (io), 2 GND (io), 3 EN (io), 4 BYP (io), 5 VOUT (io)

## LT1173CN
designator ?
GateName_1: G$1; SymbolName_1: LT1173; DeviceName: CN; LibraryName: adafruit; DeviceSetName: LT1173; Package: DIL08
footprint DIL08
pins: 1 ILIM, 2 IN (in), 3 SW1, 4 SW2, 5 GND (power), 6 AO (out), 7 SET (in), 8 FB (power)

## LT1173CS
designator ?
GateName_1: G$1; SymbolName_1: LT1173; DeviceName: CS; LibraryName: adafruit; DeviceSetName: LT1173; Package: SO08
footprint SO08
pins: 1 ILIM, 2 IN (in), 3 SW1, 4 SW2, 5 GND (power), 6 AO (out), 7 SET (in), 8 FB (power)

## LT1302
designator ?
GateName_1: G$1; SymbolName_1: LT1302; LibraryName: adafruit; DeviceSetName: LT1302; Package: DIL08
footprint DIL08
pins: 1 GND (in), 2 VC, 3 SHDN (in), 4 SNS, 5 IT (in), 6 VIN (in), 7 SW (in), 8 PGND (in)

## LT3426
designator ?, comment LT3426   1.2MHz, 2A boost converter in SOT-23    http://www.linear.com/pc/productDetail.jsp?navId=H0,C1,C1003,C1042,C1031,C1061,P8430 (Linear website)  (value not drawn)
GateName_1: G$1; SymbolName_1: LT3426; LibraryName: adafruit; DeviceSetName: LT3426; Package: SOT23-6
footprint SOT23-6
pins: 1 SW (out), 2 GND (power), 3 FB (in), 4 /SHDN (in), 5 VOUT (out), 6 VIN (in)

## LTC1730
designator ?, comment Linear Tech LTC1730 Lipoly charger    By microbuilder.eu
GateName_1: G$1; SymbolName_1: LTC1730; LibraryName: adafruit; DeviceSetName: LTC1730; Package: SO08
footprint SO08
pins: 1 SENSE (io), 2 VCC (power), 3 /CHRG (io), 4 GND (power), 5 TIMER, 6 NTC/#SHDN (in), 7 GATE (out), 8 BATT (out)

## LTC1731
designator ?, comment Linear Tech LTC1731 lipoly charger    By microbuilder.eu
GateName_1: G$1; SymbolName_1: LTC1731; LibraryName: adafruit; DeviceSetName: LTC1731; Package: SO08
footprint SO08
pins: 1 BATT (out), 2 /CHRG (io), 3 TIMER, 4 GND (power), 5 PROG, 6 DRV (out), 7 VCC (power), 8 SENSE (io)

## MAX486X/SOT
designator IC?
GateName_1: G$1; SymbolName_1: MAX486X; DeviceName: /SOT; LibraryName: adafruit; DeviceSetName: MAX486X; Package: SOT23-6
footprint SOT23-6
pins: 1 IN (in), 2 GND (power), 3 FLAG (out), 4 GATEN (out), 5 GATEP (out), 6 /EN (in)

## MAX756CPA
designator ?
GateName_1: G$1; SymbolName_1: MAX756; DeviceName: CPA; LibraryName: adafruit; DeviceSetName: MAX756; Package: DIL08
footprint DIL08
pins: 1 /SHDN (in), 2 3/5 (io), 3 REF, 4 LBO (in), 5 LBI (in), 6 OUT (out), 7 GND (power), 8 LX (out)

## MAX756CSA
designator ?
GateName_1: G$1; SymbolName_1: MAX756; DeviceName: CSA; LibraryName: adafruit; DeviceSetName: MAX756; Package: SO08
footprint SO08
pins: 1 /SHDN (in), 2 3/5 (io), 3 REF, 4 LBO (in), 5 LBI (in), 6 OUT (out), 7 GND (power), 8 LX (out)

## MAX757
designator ?
GateName_1: G$1; SymbolName_1: MAX757; LibraryName: adafruit; DeviceSetName: MAX757; Package: DIL08
footprint DIL08
pins: 1 /SHDN (in), 2 FB (io), 3 REF, 4 LBO (in), 5 LBI (in), 6 OUT (out), 7 GND (power), 8 LX (out)

## MAX1811SO8
designator ?, comment Maxim MAX1811 USB li-ion battery charger    http://www.ladyada.net/library/eagle  (value not drawn)
GateName_1: G$1; DeviceName: SO8; SymbolName_1: MAX1811; LibraryName: adafruit; DeviceSetName: MAX1811; Package: SO08
footprint SO08
pins: 1 SELV (io), 2 SELI (io), 3 GND (io), 4 IN (io), 5 BATT (io), 6 GND2 (io), 7 EN (io), 8 /CHG (io)

## MAX1898U
designator ?, comment Maxim MAX1898 li-poly battery charger    http://www.ladyada.net/library/eagle  (value not drawn)
GateName_1: G$1; SymbolName_1: MAX898; DeviceName: U; LibraryName: adafruit; DeviceSetName: MAX1898; Package: UMAX10
footprint UMAX10
pins: 1 IN (in), 2 /CHG (out), 3 EN/OK (in), 4 I_SET, 5 CT, 6 RSTRT, 7 BATT (out), 8 GND (power), 9 DRV (out), 10 CS (in)

## MAX6675
designator IC?
GateName_1: G$1; SymbolName_1: MAX6675; LibraryName: adafruit; DeviceSetName: MAX6675; Package: SO08
footprint SO08
pins: 1 GND (power), 2 T- (in), 3 T+ (in), 4 VCC (power), 5 SCK (in), 6 /CS (in), 7 DO (out)

## MAX6921
designator ?, comment MAX6921   76V VFD driver in TSSOP and PLCC. Can be cascaded, talk to it via SPI  (value not drawn)
GateName_1: G$1; SymbolName_1: MAX6921; LibraryName: adafruit; DeviceSetName: MAX6921; Package: PLCC-S28
footprint PLCC-S28
pins: 1 VBB (power), 2 DOUT (out), 3 OUT19 (out), 4 OUT18 (out), 5 OUT17 (out), 6 OUT16 (out), 7 OUT15 (out), 8 OUT14 (out), 9 OUT13 (out), 10 OUT12 (out), 11 OUT11 (out), 12 OUT10 (out), 13 BLANK (in), 14 GND (power), 15 CLK (in), 16 LOAD (in), 17 OUT9 (out), 18 OUT8 (out), 19 OUT7 (out), 20 OUT6 (out), 21 OUT5 (out), 22 OUT4 (out), 23 OUT3 (out), 24 OUT2 (out), 25 OUT1 (out), 26 OUT0 (out), 27 DIN (in), 28 VCC (power)

## MAX8601
designator ?, comment Maxim MAX8601 dual USB/DC lipoly battery charger    http://www.ladyada.net/library/eagle  (value not drawn)
GateName_1: G$1; SymbolName_1: MAX8601; LibraryName: adafruit; DeviceSetName: MAX8601; Package: TDFN14
footprint TDFN14
pins: 1 BAT (in), 2 SETI, 3 THM (in), 4 GND (power), 5 CT, 6 USEL (in), 7 BAT1 (in), 8 /EN (in), 9 USB (in), 10 /POK (out), 11 /CHG (out), 12 DC (in), 13 DC2 (in), 14 /FLT (out)

## MAX9814TDFN14
designator ?
GateName_1: G$1; SymbolName_1: MAX9814; DeviceName: TDFN14; LibraryName: adafruit; DeviceSetName: MAX9814; Package: TDFN14_3X3MM
footprint TDFN14_3X3MM
pins: P$1 CT (io), P$2 /SHDN (io), P$3 CG (io), P$4 NC1, P$5 VDD (io), P$6 MICOUT (io), P$7 GND (io), P$8 MICIN (io), P$9 A/R (io), P$10 GAIN (io), P$11 NC2, P$12 BIAS (io), P$13 MICBIAS (io), P$14 TH (io), P$THERMAL EP (io)

## MC33063/MC34063D
designator ?, comment MC33063 and MC34063   Basic DC/DC converter with internal power-NPN transistor, 100KHz, 1.5A peak switch current. 3-40 input/output.  (value not drawn)
GateName_1: G$1; DeviceName: D; DeviceSetName: MC33063/MC34063; SymbolName_1: MC33063; LibraryName: adafruit; Package: SO08
footprint SO08
pins: 1 SWC (in), 2 SWE (in), 3 TC (in), 4 GND (power), 5 COMP (in), 6 VCC (power), 7 IPK (io), 8 DC (in)

## MC33063/MC34063P
designator ?, comment MC33063 and MC34063   Basic DC/DC converter with internal power-NPN transistor, 100KHz, 1.5A peak switch current. 3-40 input/output.  (value not drawn)
GateName_1: G$1; DeviceName: P; DeviceSetName: MC33063/MC34063; SymbolName_1: MC33063; LibraryName: adafruit; Package: DIL08
footprint DIL08
pins: 1 SWC (in), 2 SWE (in), 3 TC (in), 4 GND (power), 5 COMP (in), 6 VCC (power), 7 IPK (io), 8 DC (in)

## MC33340/2P
designator ?, comment MC33340 or MC33342   NiMH/NiCad Battery fast charge controller  (value not drawn)
GateName_1: G$1; SymbolName_1: MC33340/2; DeviceName: P; LibraryName: adafruit; DeviceSetName: MC33340/2; Package: DIL08
footprint DIL08
pins: 1 VSEN (in), 2 GATE (out), 3 F/T (out), 4 GND (power), 5 T3, 6 T2, 7 T1, 8 VCC (power)

## MCP1700INLINE
designator IC?, comment VOLTAGE REGULATOR
GateName_1: 1; SymbolName_1: 78XX-1; DeviceName: INLINE; DeviceSetName: MCP1700; LibraryName: adafruit; Package: TO92-INLINE
footprint TO92-INLINE
pins: 1 GND (in), 2 IN (in), 3 OUT

## MCP1700TRI
designator IC?, comment VOLTAGE REGULATOR
GateName_1: 1; SymbolName_1: 78XX-1; DeviceName: TRI; DeviceSetName: MCP1700; LibraryName: adafruit; Package: TO92
footprint TO92
pins: 1 GND (in), 2 IN (in), 3 OUT

## MCP3008
designator IC?
GateName_1: G$1; SymbolName_1: MCP3008; LibraryName: adafruit; DeviceSetName: MCP3008; Package: DIL16
footprint DIL16
pins: 1 CH0 (in), 2 CH1 (in), 3 CH2 (in), 4 CH3 (in), 5 CH4 (in), 6 CH5 (in), 7 CH6 (in), 8 CH7 (in), 9 GND (power), 10 /CS (in), 11 DIN (in), 12 DOUT (out), 13 CLK (in), 14 AGND (power), 15 VREF (in), 16 VDD (power)

## MCP4921
designator ?
GateName_1: G$1; SymbolName_1: MCP4921; LibraryName: adafruit; DeviceSetName: MCP4921; Package: DIL08
footprint DIL08
pins: 1 VDD (power), 2 #CS (in), 3 SCK (in), 4 SDI (in), 5 LDAC (in), 6 REFA (in), 7 AVSS (power), 8 DACA (out)

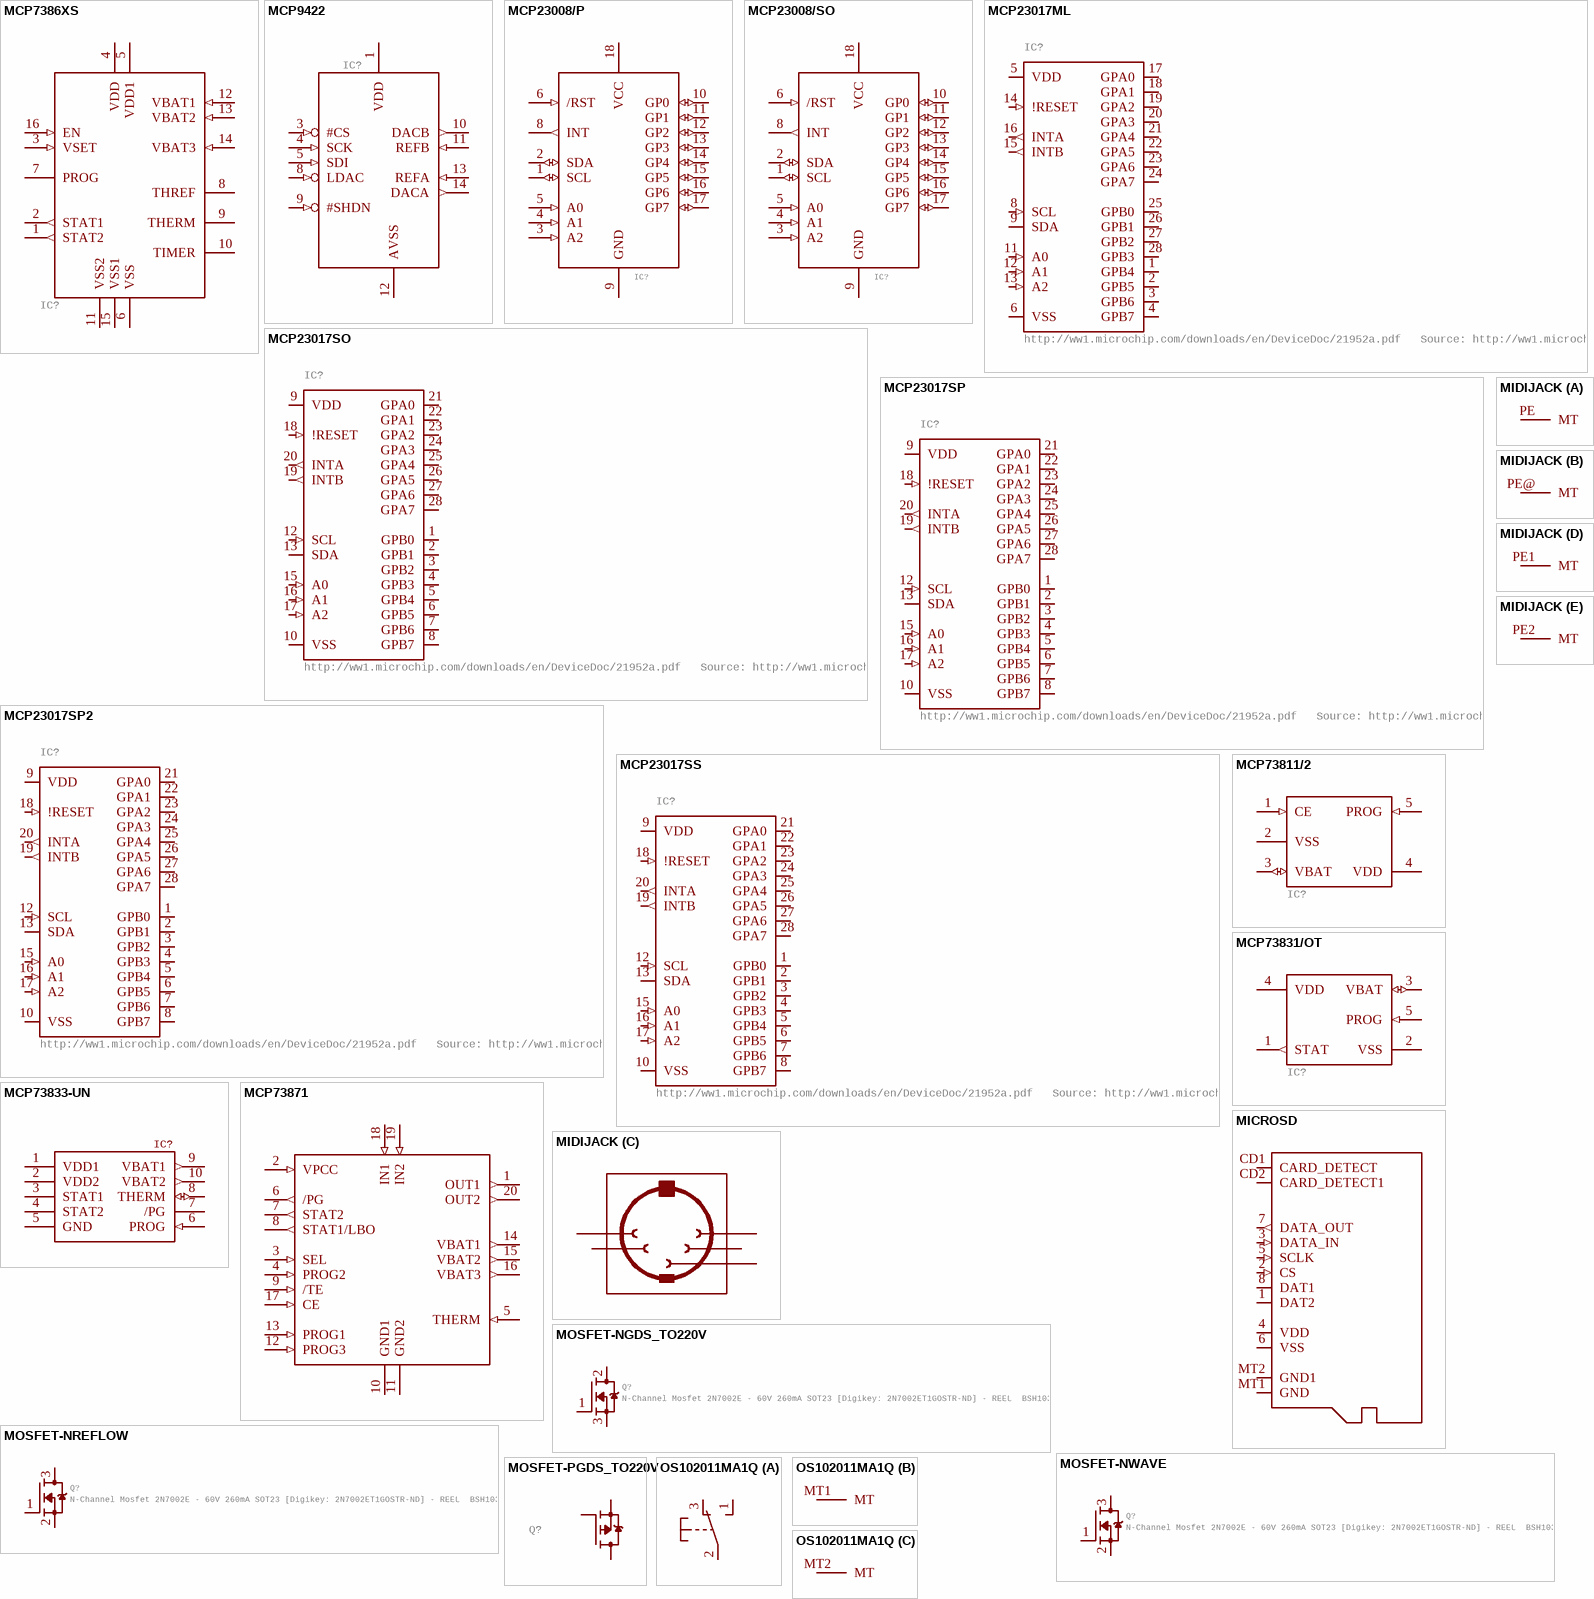
[diagram p19: symbols MCP7386XS to OS102011MA1Q]

## MCP7386XS
designator IC?, comment MCP7386x   4.1, 4.2, 8.2, 8.4 LiPoly battery charger chip family, with wide DC input, thermal cutoff, adjustable curret, and indicator LEDs  (value not drawn)
GateName_1: G$1; DeviceName: S; SymbolName_1: MCP7386X; LibraryName: adafruit; DeviceSetName: MCP7386X; Package: SO16
footprint SO16
pins: 1 STAT2 (out), 2 STAT1 (out), 3 VSET (in), 4 VDD (power), 5 VDD1 (power), 6 VSS (power), 7 PROG, 8 THREF, 9 THERM, 10 TIMER, 11 VSS2 (power), 12 VBAT1 (in), 13 VBAT2 (in), 14 VBAT3 (in), 15 VSS1 (power), 16 EN (in)

## MCP9422
designator IC?
GateName_1: G$1; SymbolName_1: MCP4922; DeviceSetName: MCP9422; LibraryName: adafruit; Package: DIL14
footprint DIL14
pins: 1 VDD (power), 3 #CS (in), 4 SCK (in), 5 SDI (in), 8 LDAC (in), 9 #SHDN (in), 10 DACB (out), 11 REFB (in), 12 AVSS (power), 13 REFA (in), 14 DACA (out)

## MCP23008/P
designator IC?, comment MCP23008   Inexpensive i2c i/o expander - 8 general purpose i/o pins with optional pullups  (value not drawn)
GateName_1: G$1; SymbolName_1: MCP2300X; DeviceName: /P; LibraryName: adafruit; DeviceSetName: MCP23008; Package: DIL18
footprint DIL18
pins: 1 SCL (io), 2 SDA (io), 3 A2 (in), 4 A1 (in), 5 A0 (in), 6 /RST (in), 8 INT (out), 9 GND (power), 10 GP0 (io), 11 GP1 (io), 12 GP2 (io), 13 GP3 (io), 14 GP4 (io), 15 GP5 (io), 16 GP6 (io), 17 GP7 (io), 18 VCC (power)

## MCP23008/SO
designator IC?, comment MCP23008   Inexpensive i2c i/o expander - 8 general purpose i/o pins with optional pullups  (value not drawn)
GateName_1: G$1; SymbolName_1: MCP2300X; DeviceName: /SO; LibraryName: adafruit; DeviceSetName: MCP23008; Package: SO18W
footprint SO18W
pins: 1 SCL (io), 2 SDA (io), 3 A2 (in), 4 A1 (in), 5 A0 (in), 6 /RST (in), 8 INT (out), 9 GND (power), 10 GP0 (io), 11 GP1 (io), 12 GP2 (io), 13 GP3 (io), 14 GP4 (io), 15 GP5 (io), 16 GP6 (io), 17 GP7 (io), 18 VCC (power)

## MCP23017ML
designator IC?, comment http://ww1.microchip.com/downloads/en/DeviceDoc/21952a.pdf   Source: http://ww1.microchip.com/downloads/en/DeviceDoc/21952a.pdf
GateName_1: G$1; SymbolName_1: MCP23017; DeviceName: ML; LibraryName: adafruit; DeviceSetName: MCP23017; Package: QFN28-ML_6X6MM
footprint QFN28-ML_6X6MM
pins: 1 GPB4 (io), 2 GPB5 (io), 3 GPB6 (io), 4 GPB7 (io), 5 VDD (power), 6 VSS (power), 8 SCL (in), 9 SDA (io), 11 A0 (in), 12 A1 (in), 13 A2 (in), 14 !RESET (in), 15 INTB (out), 16 INTA (out), 17 GPA0 (io), 18 GPA1 (io), 19 GPA2 (io), 20 GPA3 (io), 21 GPA4 (io), 22 GPA5 (io), 23 GPA6 (io), 24 GPA7 (io), 25 GPB0 (io), 26 GPB1 (io), 27 GPB2 (io), 28 GPB3 (io)

## MCP23017SO
designator IC?, comment http://ww1.microchip.com/downloads/en/DeviceDoc/21952a.pdf   Source: http://ww1.microchip.com/downloads/en/DeviceDoc/21952a.pdf
GateName_1: G$1; SymbolName_1: MCP23017; DeviceName: SO; LibraryName: adafruit; DeviceSetName: MCP23017; Package: SO28W
footprint SO28W
pins: 1 GPB0 (io), 2 GPB1 (io), 3 GPB2 (io), 4 GPB3 (io), 5 GPB4 (io), 6 GPB5 (io), 7 GPB6 (io), 8 GPB7 (io), 9 VDD (power), 10 VSS (power), 12 SCL (in), 13 SDA (io), 15 A0 (in), 16 A1 (in), 17 A2 (in), 18 !RESET (in), 19 INTB (out), 20 INTA (out), 21 GPA0 (io), 22 GPA1 (io), 23 GPA2 (io), 24 GPA3 (io), 25 GPA4 (io), 26 GPA5 (io), 27 GPA6 (io), 28 GPA7 (io)

## MCP23017SP
designator IC?, comment http://ww1.microchip.com/downloads/en/DeviceDoc/21952a.pdf   Source: http://ww1.microchip.com/downloads/en/DeviceDoc/21952a.pdf
GateName_1: G$1; SymbolName_1: MCP23017; DeviceName: SP; LibraryName: adafruit; DeviceSetName: MCP23017; Package: DIL28-3
footprint DIL28-3
pins: 1 GPB0 (io), 2 GPB1 (io), 3 GPB2 (io), 4 GPB3 (io), 5 GPB4 (io), 6 GPB5 (io), 7 GPB6 (io), 8 GPB7 (io), 9 VDD (power), 10 VSS (power), 12 SCL (in), 13 SDA (io), 15 A0 (in), 16 A1 (in), 17 A2 (in), 18 !RESET (in), 19 INTB (out), 20 INTA (out), 21 GPA0 (io), 22 GPA1 (io), 23 GPA2 (io), 24 GPA3 (io), 25 GPA4 (io), 26 GPA5 (io), 27 GPA6 (io), 28 GPA7 (io)

## MCP23017SP2
designator IC?, comment http://ww1.microchip.com/downloads/en/DeviceDoc/21952a.pdf   Source: http://ww1.microchip.com/downloads/en/DeviceDoc/21952a.pdf
GateName_1: G$1; SymbolName_1: MCP23017; DeviceName: SP2; LibraryName: adafruit; DeviceSetName: MCP23017; Package: DIL28-3-ROUND
footprint DIL28-3-ROUND
pins: 1 GPB0 (io), 2 GPB1 (io), 3 GPB2 (io), 4 GPB3 (io), 5 GPB4 (io), 6 GPB5 (io), 7 GPB6 (io), 8 GPB7 (io), 9 VDD (power), 10 VSS (power), 12 SCL (in), 13 SDA (io), 15 A0 (in), 16 A1 (in), 17 A2 (in), 18 !RESET (in), 19 INTB (out), 20 INTA (out), 21 GPA0 (io), 22 GPA1 (io), 23 GPA2 (io), 24 GPA3 (io), 25 GPA4 (io), 26 GPA5 (io), 27 GPA6 (io), 28 GPA7 (io)

## MCP23017SS
designator IC?, comment http://ww1.microchip.com/downloads/en/DeviceDoc/21952a.pdf   Source: http://ww1.microchip.com/downloads/en/DeviceDoc/21952a.pdf
GateName_1: G$1; SymbolName_1: MCP23017; DeviceName: SS; LibraryName: adafruit; DeviceSetName: MCP23017; Package: SSOP28
footprint SSOP28
pins: 1 GPB0 (io), 2 GPB1 (io), 3 GPB2 (io), 4 GPB3 (io), 5 GPB4 (io), 6 GPB5 (io), 7 GPB6 (io), 8 GPB7 (io), 9 VDD (power), 10 VSS (power), 12 SCL (in), 13 SDA (io), 15 A0 (in), 16 A1 (in), 17 A2 (in), 18 !RESET (in), 19 INTB (out), 20 INTA (out), 21 GPA0 (io), 22 GPA1 (io), 23 GPA2 (io), 24 GPA3 (io), 25 GPA4 (io), 26 GPA5 (io), 27 GPA6 (io), 28 GPA7 (io)

## MCP73811/2
designator IC?, comment MCP73811 and MCP73812   Simple, Miniature Single-Cell, Fully Integrated Li-Ion / Li-Polymer Charge Management Controllers  SOT-23-5 package, no indicator LED but with adjustable current, small and very inexpensive  (value not drawn)
GateName_1: G$1; SymbolName_1: MCP73811/2; LibraryName: adafruit; DeviceSetName: MCP73811/2; Package: SOT23-5L
footprint SOT23-5L
pins: 1 CE (in), 2 VSS (power), 3 VBAT (io), 4 VDD (power), 5 PROG (in)

## MCP73831/OT
designator IC?, comment MCP73831/2   Miniature Single-Cell, Fully Integrated Li-Ion, Li-Polymer Charge Management Controllers.    Nice and small simple lipoly charge controller, with adjustable current and status output (LED)    http://www.ladyada.net/library/pcb/eaglelibrary.html  (value not drawn)
GateName_1: G$1; DeviceName: /OT; SymbolName_1: MCP73831/2; LibraryName: adafruit; DeviceSetName: MCP73831; Package: SOT23-5L
footprint SOT23-5L
pins: 1 STAT (out), 2 VSS (power), 3 VBAT (io), 4 VDD (power), 5 PROG (in)

## MCP73833-UN
designator IC?
GateName_1: G$1; SymbolName_1: MCP73833; DeviceName: -UN; LibraryName: adafruit; DeviceSetName: MCP73833; Package: MSOP10
footprint MSOP10
pins: 1 VDD1 (power), 2 VDD2 (power), 3 STAT1, 4 STAT2, 5 GND (power), 6 PROG (in), 7 /PG, 8 THERM (io), 9 VBAT1 (out), 10 VBAT2 (out)

## MCP73871
designator IC?
GateName_1: G$1; SymbolName_1: MCP73871; LibraryName: adafruit; DeviceSetName: MCP73871; Package: QFN20
footprint QFN20
pins: 1 OUT1 (out), 2 VPCC (in), 3 SEL (in), 4 PROG2 (in), 5 THERM (in), 6 /PG (out), 7 STAT2 (out), 8 STAT1/LBO (out), 9 /TE (in), 10 GND1 (power), 11 GND2 (power), 12 PROG3 (in), 13 PROG1 (in), 14 VBAT1 (out), 15 VBAT2 (out), 16 VBAT3 (out), 17 CE (in), 18 IN1 (in), 19 IN2 (in), 20 OUT2 (out)

## MICROSD
designator ?, comment Micro-SD / Transflash card holder with SPI pinout   For the 3M # 2908-05WB-MG and/or 4UCON #19656 push-push type  (value not drawn)
GateName_1: G$1; DeviceSetName: MICROSD; SymbolName_1: TRANSFLASH; LibraryName: adafruit; Package: MICROSD
footprint MICROSD
pins: 1 DAT2 (io), 2 CS (in), 3 DATA_IN (in), 4 VDD (power), 5 SCLK (in), 6 VSS (power), 7 DATA_OUT (out), 8 DAT1 (io), CD1 CARD_DETECT, CD2 CARD_DETECT1, MT1 GND (power), MT2 GND1 (power)

## MIDIJACK
designator ?, comment DIN 5 jack also known as MIDI jackA modification of conn-hirshman:MAB5SH with two options for the grounding 'teeth'  (value not drawn)
GateName_1: G$2; SymbolName_1: MT; GateName_2: G$3; GateName_3: G$1; SymbolName_3: DIN-5; GateName_4: G$4; GateName_5: G$5; SymbolName_2: MT; SymbolName_4: MT; SymbolName_5: MT; LibraryName: adafruit; DeviceSetName: MIDIJACK; Package: CP-2350
footprint CP-2350
part A pins: PE MT
part B pins: PE@ MT
part C pins: 1, 2, 3, 4, 5
part D pins: PE1 MT
part E pins: PE2 MT

## MOSFET-NGDS_TO220V
designator Q?, comment N-Channel Mosfet 2N7002E - 60V 260mA SOT23 [Digikey: 2N7002ET1GOSTR-ND] - REEL  BSH103 - 30V 850mA SOT23 [Digikey: 568-5013-1-ND]
GateName_1: G$1; SymbolName_1: MOSFET-N; DeviceName: GDS_TO220V; LibraryName: adafruit; DeviceSetName: MOSFET-N; Package: TO220V
footprint TO220V
pins: 1 G (io), 2 D (io), 3 S (io)

## MOSFET-NREFLOW
designator Q?, comment N-Channel Mosfet 2N7002E - 60V 260mA SOT23 [Digikey: 2N7002ET1GOSTR-ND] - REEL  BSH103 - 30V 850mA SOT23 [Digikey: 568-5013-1-ND]
GateName_1: G$1; SymbolName_1: MOSFET-N; DeviceName: REFLOW; LibraryName: adafruit; DeviceSetName: MOSFET-N; Package: SOT23
footprint SOT23
pins: 1 G (io), 2 S (io), 3 D (io)

## MOSFET-NWAVE
designator Q?, comment N-Channel Mosfet 2N7002E - 60V 260mA SOT23 [Digikey: 2N7002ET1GOSTR-ND] - REEL  BSH103 - 30V 850mA SOT23 [Digikey: 568-5013-1-ND]
GateName_1: G$1; SymbolName_1: MOSFET-N; DeviceName: WAVE; LibraryName: adafruit; DeviceSetName: MOSFET-N; Package: SOT23-W
footprint SOT23-W
pins: 1 G (io), 2 S (io), 3 D (io)

## MOSFET-PGDS_TO220V
designator Q?
GateName_1: G$1; SymbolName_1: P-MOSFET; DeviceName: GDS_TO220V; DeviceSetName: MOSFET-P; LibraryName: adafruit; Package: TO220V
footprint TO220V
pins: 1 G, 2 D, 3 S

## OS102011MA1Q
designator SW?, comment OS10201MA1Q through-hole right angle switch    http://www.ladyada.net/library/eagle  (value not drawn)
GateName_1: G$1; SymbolName_1: TSU; GateName_2: G$2; SymbolName_2: MT; GateName_3: G$3; DeviceSetName: OS102011MA1Q; SymbolName_3: MT; LibraryName: adafruit; Package: OS102011MA1Q
footprint OS102011MA1Q
part A pins: 1 S, 2 P, 3 O
part B pins: MT1 MT
part C pins: MT2 MT

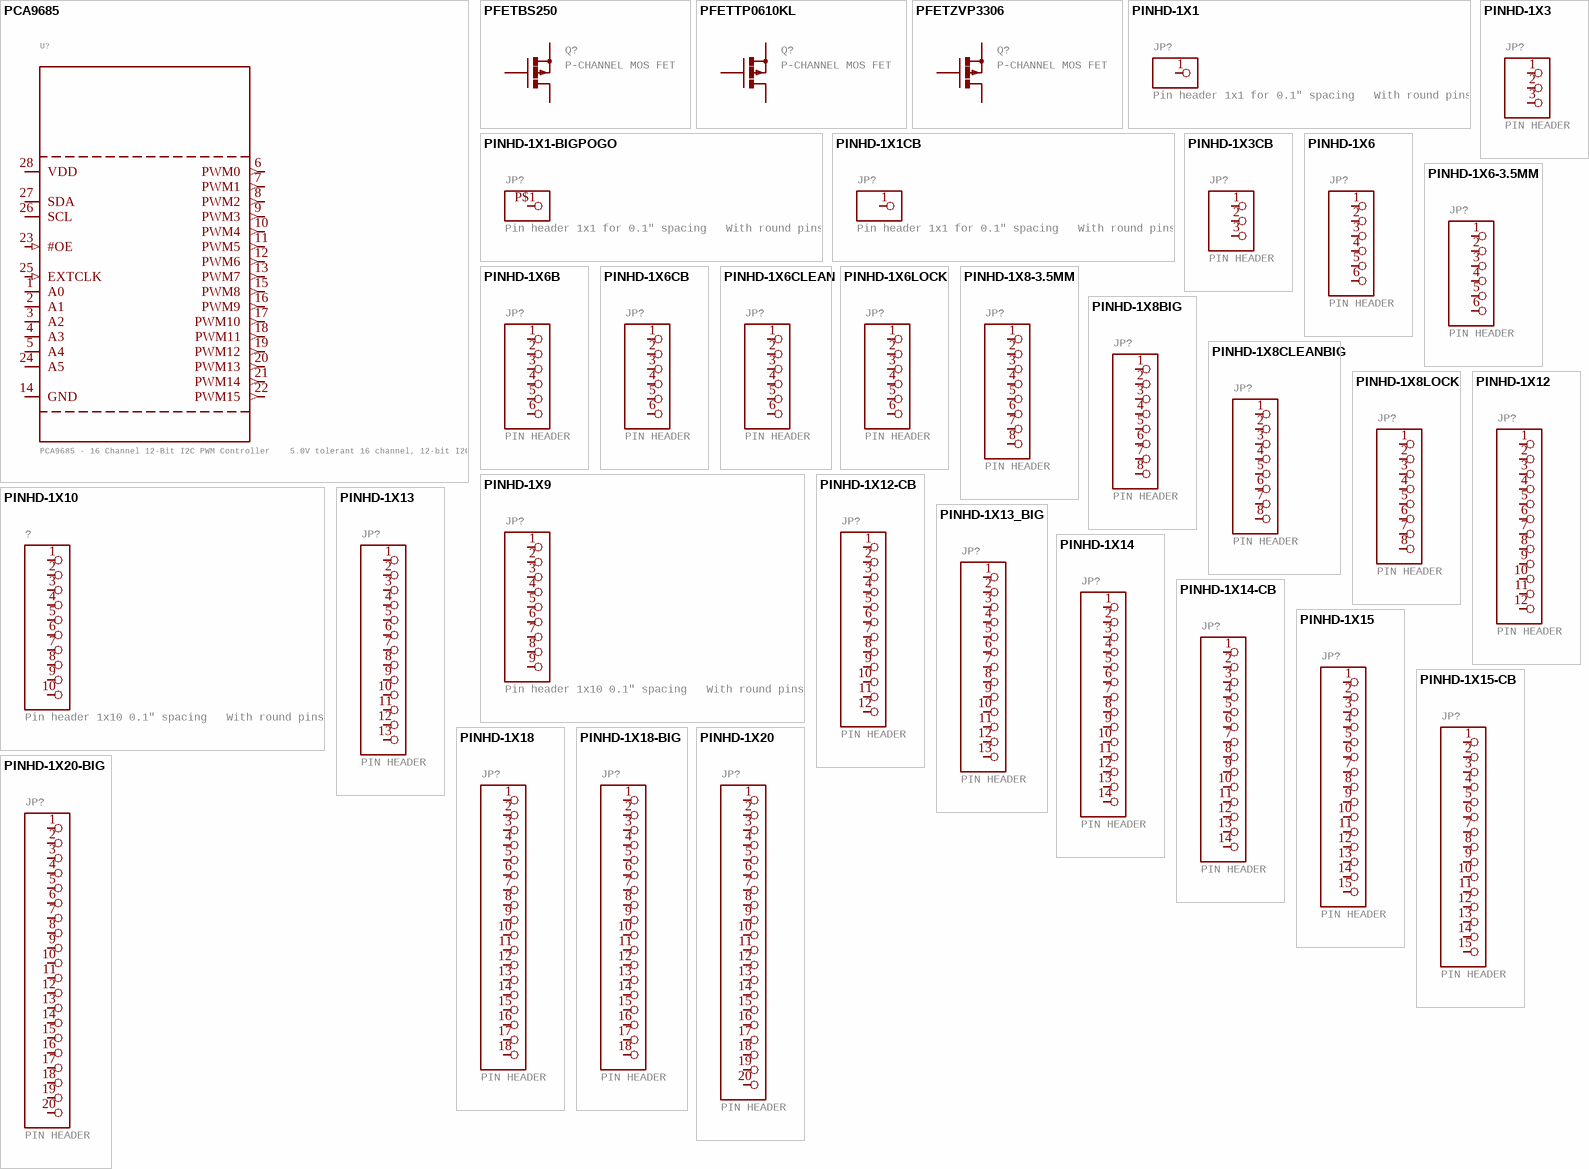
[diagram p20: symbols PCA9685 to PINHD-1X20-BIG]

## PCA9685
designator U?, comment PCA9685 - 16 Channel 12-Bit I2C PWM Controller    5.0V tolerant 16 channel, 12-bit I2C PWM controller with 25mA per output (max. 400mA total)   Digikey: 568-5931-1-ND
GateName_1: G$1; SymbolName_1: PCA9865; LibraryName: adafruit; DeviceSetName: PCA9685; Package: TSSOP28
footprint TSSOP28
pins: 1 A0 (io), 2 A1 (io), 3 A2 (io), 4 A3 (io), 5 A4 (io), 6 PWM0 (out), 7 PWM1 (out), 8 PWM2 (out), 9 PWM3 (out), 10 PWM4 (out), 11 PWM5 (out), 12 PWM6 (out), 13 PWM7 (out), 14 GND (power), 15 PWM8 (out), 16 PWM9 (out), 17 PWM10 (out), 18 PWM11 (out), 19 PWM12 (out), 20 PWM13 (out), 21 PWM14 (out), 22 PWM15 (out), 23 #OE (in), 24 A5 (io), 25 EXTCLK (in), 26 SCL (io), 27 SDA (io), 28 VDD (power)

## PFETBS250
designator Q?, comment P-CHANNEL MOS FET
GateName_1: 1; SymbolName_1: IGFPA; DeviceName: BS250; DeviceSetName: PFET; LibraryName: adafruit; Package: TO92-OVAL
footprint TO92-OVAL
pins: 1 D, 2 G, 3 S

## PFETTP0610KL
designator Q?, comment P-CHANNEL MOS FET
GateName_1: 1; SymbolName_1: IGFPA; DeviceName: TP0610KL; DeviceSetName: PFET; LibraryName: adafruit; Package: TO92-OVAL
footprint TO92-OVAL
pins: 1 S, 2 G, 3 D

## PFETZVP3306
designator Q?, comment P-CHANNEL MOS FET
GateName_1: 1; SymbolName_1: IGFPA; DeviceName: ZVP3306; DeviceSetName: PFET; LibraryName: adafruit; Package: TO92-OVAL
footprint TO92-OVAL
pins: 1 S, 2 G, 3 D

## PINHD-1X1
designator JP?, comment Pin header 1x1 for 0.1" spacing   With round pins
GateName_1: G$1; SymbolName_1: PINHD1; DeviceSetName: PINHD-1X1; LibraryName: adafruit; Package: 1X01
footprint 1X01
pins: 1

## PINHD-1X1-BIGPOGO
designator JP?, comment Pin header 1x1 for 0.1" spacing   With round pins
GateName_1: G$1; SymbolName_1: PINHD1; DeviceName: -BIGPOGO; DeviceSetName: PINHD-1X1; LibraryName: adafruit; Package: 1X1-BIGPOGO
footprint 1X1-BIGPOGO
pins: P$1 1

## PINHD-1X1CB
designator JP?, comment Pin header 1x1 for 0.1" spacing   With round pins
GateName_1: G$1; SymbolName_1: PINHD1; DeviceName: CB; DeviceSetName: PINHD-1X1; LibraryName: adafruit; Package: 1X01-CLEANBIG
footprint 1X01-CLEANBIG
pins: 1

## PINHD-1X3
designator JP?, comment PIN HEADER
GateName_1: A; SymbolName_1: PINHD3; DeviceSetName: PINHD-1X3; LibraryName: adafruit; Package: 1X03
footprint 1X03
pins: 1, 2, 3

## PINHD-1X3CB
designator JP?, comment PIN HEADER
GateName_1: A; SymbolName_1: PINHD3; DeviceName: CB; DeviceSetName: PINHD-1X3; LibraryName: adafruit; Package: 1X03-CLEANBIG
footprint 1X03-CLEANBIG
pins: 1, 2, 3

## PINHD-1X6
designator JP?, comment PIN HEADER
GateName_1: A; SymbolName_1: PINHD6; DeviceSetName: PINHD-1X6; LibraryName: adafruit; Package: 1X06
footprint 1X06
pins: 1, 2, 3, 4, 5, 6

## PINHD-1X6-3.5MM
designator JP?, comment PIN HEADER
GateName_1: A; SymbolName_1: PINHD6; DeviceName: -3.5MM; DeviceSetName: PINHD-1X6; LibraryName: adafruit; Package: 1X06-3.5MM
footprint 1X06-3.5MM
pins: 1, 2, 3, 4, 5, 6

## PINHD-1X6B
designator JP?, comment PIN HEADER
GateName_1: A; SymbolName_1: PINHD6; DeviceName: B; DeviceSetName: PINHD-1X6; LibraryName: adafruit; Package: 1X06-BIG
footprint 1X06-BIG
pins: 1, 2, 3, 4, 5, 6

## PINHD-1X6CB
designator JP?, comment PIN HEADER
GateName_1: A; SymbolName_1: PINHD6; DeviceName: CB; DeviceSetName: PINHD-1X6; LibraryName: adafruit; Package: 1X06-CLEANBIG
footprint 1X06-CLEANBIG
pins: 1, 2, 3, 4, 5, 6

## PINHD-1X6CLEAN
designator JP?, comment PIN HEADER
GateName_1: A; SymbolName_1: PINHD6; DeviceName: CLEAN; DeviceSetName: PINHD-1X6; LibraryName: adafruit; Package: 1X06-CLEAN
footprint 1X06-CLEAN
pins: 1, 2, 3, 4, 5, 6

## PINHD-1X6LOCK
designator JP?, comment PIN HEADER
GateName_1: A; SymbolName_1: PINHD6; DeviceName: LOCK; DeviceSetName: PINHD-1X6; LibraryName: adafruit; Package: 1X06-BIGLOCK
footprint 1X06-BIGLOCK
pins: 1, 2, 3, 4, 5, 6

## PINHD-1X8-3.5MM
designator JP?, comment PIN HEADER
GateName_1: G$1; SymbolName_1: PINHD8; DeviceName: -3.5MM; DeviceSetName: PINHD-1X8; LibraryName: adafruit; Package: 1X08-3.5MM
footprint 1X08-3.5MM
pins: 1, 2, 3, 4, 5, 6, 7, 8

## PINHD-1X8BIG
designator JP?, comment PIN HEADER
GateName_1: G$1; SymbolName_1: PINHD8; DeviceName: BIG; DeviceSetName: PINHD-1X8; LibraryName: adafruit; Package: 1X08-BIG
footprint 1X08-BIG
pins: 1, 2, 3, 4, 5, 6, 7, 8

## PINHD-1X8CLEANBIG
designator JP?, comment PIN HEADER
GateName_1: G$1; SymbolName_1: PINHD8; DeviceName: CLEANBIG; DeviceSetName: PINHD-1X8; LibraryName: adafruit; Package: 1X08-CLEANBIG
footprint 1X08-CLEANBIG
pins: 1, 2, 3, 4, 5, 6, 7, 8

## PINHD-1X8LOCK
designator JP?, comment PIN HEADER
GateName_1: G$1; SymbolName_1: PINHD8; DeviceName: LOCK; DeviceSetName: PINHD-1X8; LibraryName: adafruit; Package: 1X08-LOCK
footprint 1X08-LOCK
pins: 1, 2, 3, 4, 5, 6, 7, 8

## PINHD-1X9
designator JP?, comment Pin header 1x10 0.1" spacing   With round pins
GateName_1: G$1; SymbolName_1: PINHD9; DeviceSetName: PINHD-1X9; LibraryName: adafruit; Package: 1X09-BIG
footprint 1X09-BIG
pins: 1, 2, 3, 4, 5, 6, 7, 8, 9

## PINHD-1X10
designator ?, comment Pin header 1x10 0.1" spacing   With round pins
GateName_1: G$1; SymbolName_1: PINHD10; DeviceSetName: PINHD-1X10; LibraryName: adafruit; Package: 1X10-BIG
footprint 1X10-BIG
pins: 1, 2, 3, 4, 5, 6, 7, 8, 9, 10

## PINHD-1X12
designator JP?, comment PIN HEADER
GateName_1: G$1; SymbolName_1: PINHD12; DeviceSetName: PINHD-1X12; LibraryName: adafruit; Package: 1X12
footprint 1X12
pins: 1, 2, 3, 4, 5, 6, 7, 8, 9, 10, 11, 12

## PINHD-1X12-CB
designator JP?, comment PIN HEADER
GateName_1: G$1; SymbolName_1: PINHD12; DeviceName: -CB; DeviceSetName: PINHD-1X12; LibraryName: adafruit; Package: 1X12-CB
footprint 1X12-CB
pins: 1, 2, 3, 4, 5, 6, 7, 8, 9, 10, 11, 12